# Altium footprint library AUVic_PCB_Library_Logic.PcbLib: 6 footprints
Each footprint in its own frame and in the unit in brackets; x right, y up, seen from the top. Pads: shape width x height; smd on the part's side, far side on the other; paste and mask are expansions set on the pad; w line width, h text height; cw(c..) or ccw(c..) is an arc to the next point about the centre after c.
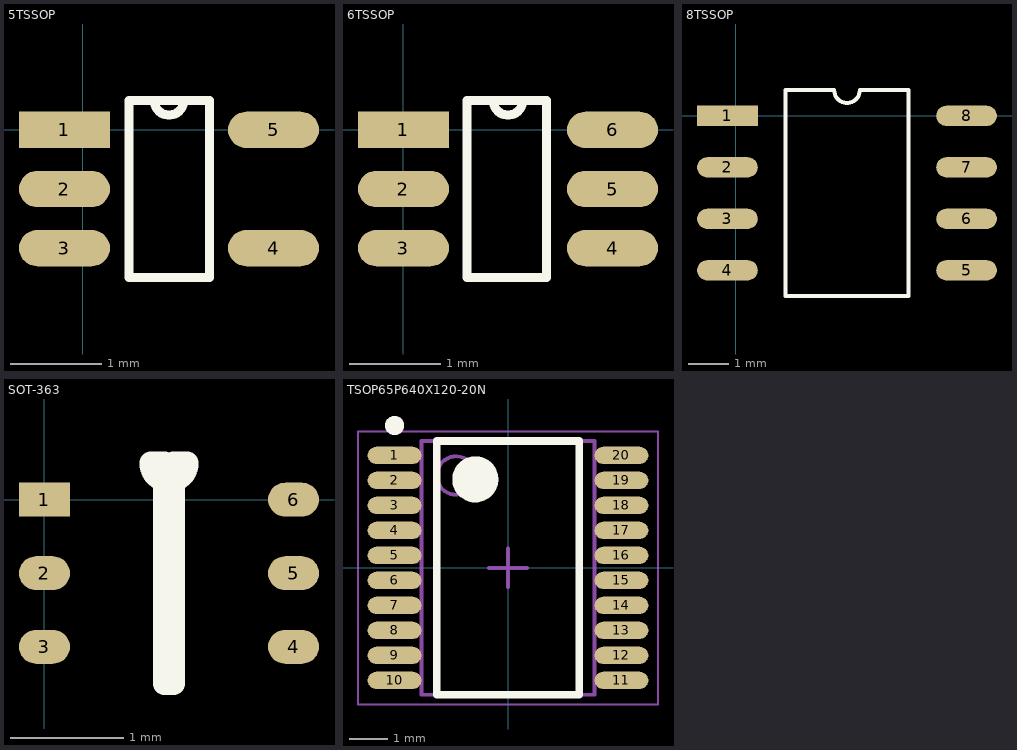
[diagram p0: the footprints below, top view; thin cyan lines are the x and y axes]

## 5TSSOP [mm]
pads (5):
  rect 1x0.4 smd: 1(-0.2,0)
  oval 1x0.4 smd: 2(-0.2,-0.65) 3(-0.2,-1.3) 4(2.1,-1.3) 5(2.1,0)
Top Overlay:
  lines w0.1: 0.508,-1.625 1.397,-1.625 1.397,0.325 0.787,0.325 ccw(c0.95,0.325) 1.112,0.325 0.508,0.325 0.508,-1.625
3D body "User Library-TSSOP-5 (SOT-23-5 PITCH 0_65).STEP": height 1.1, standoff -0.01, extent -0.225,-1.775 2.025,0.475

## 6TSSOP [mm]
pads (6):
  rect 1x0.4 smd: 1(0,0)
  oval 1x0.4 smd: 2(0,-0.65) 3(0,-1.3) 4(2.3,-1.3) 5(2.3,-0.65) 6(2.3,0)
Top Overlay:
  lines w0.1: 0.7,-1.625 0.7,0.325 1.312,0.325 cw(c1.15,0.325) 0.988,0.325 1.575,0.325 1.575,-1.625 0.7,-1.625
3D body "User Library-TSSOP-6 (SOT-23-6 PITCH 0_65).STEP": height 1.1, standoff -0.01, extent 0.025,-1.775 2.275,0.475

## 8TSSOP [mm]
pads (8):
  rect 1.5x0.5 smd: 1(-0.2,0)
  oval 1.5x0.5 smd: 2(-0.2,-1.27) 3(-0.2,-2.54) 4(-0.2,-3.81) 5(5.7,-3.81) 6(5.7,-2.54) 7(5.7,-1.27) 8(5.7,0)
Top Overlay:
  lines w0.1: 1.235,-4.445 4.265,-4.445 4.265,0.635 3.067,0.635 cw(c2.75,0.635) 2.432,0.635 1.235,0.635 1.235,-4.445
3D body "User Library-SOIC8_JEDEC_MS-012AA.step": height 1.75, standoff -0.01, extent -0.324,-4.4 5.875,0.6

## 20TSSOP_GenericModel [mm] "Holding altium generated 20 TSSOP 3d model"
3D body "TSOP65P640X120-20N.step": height 1.2, standoff 0, extent -3.2,-3.3 3.2,3.3

## SOT-363 [mm]
pads (6):
  rect 0.45x0.3 smd: 1(0,0)
  oval 0.45x0.3 smd: 2(0,-0.65) 3(0,-1.3) 4(2.2,-1.3) 5(2.2,-0.65) 6(2.2,0)
Top Overlay:
  lines w0.2: 0.938,0.325 ccw(c1.1,0.325) 1.262,0.325 1.14,0.325 1.14,-1.625 1.06,-1.625 1.06,0.325 0.938,0.325
3D body "User Library-sot363.step": height 1, standoff 0, extent -0.075,-1.7 2.225,0.4

## TSOP65P640X120-20N [mm] "TSOP, 20-Leads, Body 6.50x4.40mm, Pitch 0.65mm, IPC Medium Density"
height 1.2
pads (20):
  oval 1.4x0.45 smd: 1(-2.95,2.925) 2(-2.95,2.275) 3(-2.95,1.625) 4(-2.95,0.975) 5(-2.95,0.325) 6(-2.95,-0.325) 7(-2.95,-0.975) 8(-2.95,-1.625) 9(-2.95,-2.275) 10(-2.95,-2.925) 11(2.95,-2.925) 12(2.95,-2.275) 13(2.95,-1.625) 14(2.95,-0.975) 15(2.95,-0.325) 16(2.95,0.325) 17(2.95,0.975) 18(2.95,1.625) 19(2.95,2.275) 20(2.95,2.925)
Top Overlay:
  circle w0.6: c-0.85,2.3 r0.3
  circle w0.25: c-2.95,3.7 r0.125
  lines w0.2: -1.85,-3.3 1.85,-3.3 1.85,3.3 -1.85,3.3 -1.85,-3.3
Body Top:
  circle w0.1: c-1.35,2.4 r0.5
  lines w0.1: -2.25,-3.3 2.25,-3.3 2.25,3.3 -2.25,3.3 -2.25,-3.3
  text ".Designator" at 0.925,-5.25 h0.8
Courtyard Top:
  lines w0.05: -3.9,-3.55 3.9,-3.55 3.9,3.55 -3.9,3.55 -3.9,-3.55
  lines w0.1: -0.5,0 0.5,0 ; 0,-0.5 0,0.5
3D body "User Library-tssop-20-1.step": height 1.2, standoff 0, extent -3.3,-3.3 3.3,3.3